# Altium schematic symbol library SCH - MCU - STM32 - ST MICROELECTRONICS STM32U545REIXQ UFBGA64.SchLib: 1 symbol
Pins are listed as number, name and electrical type; pins without a type are passive.

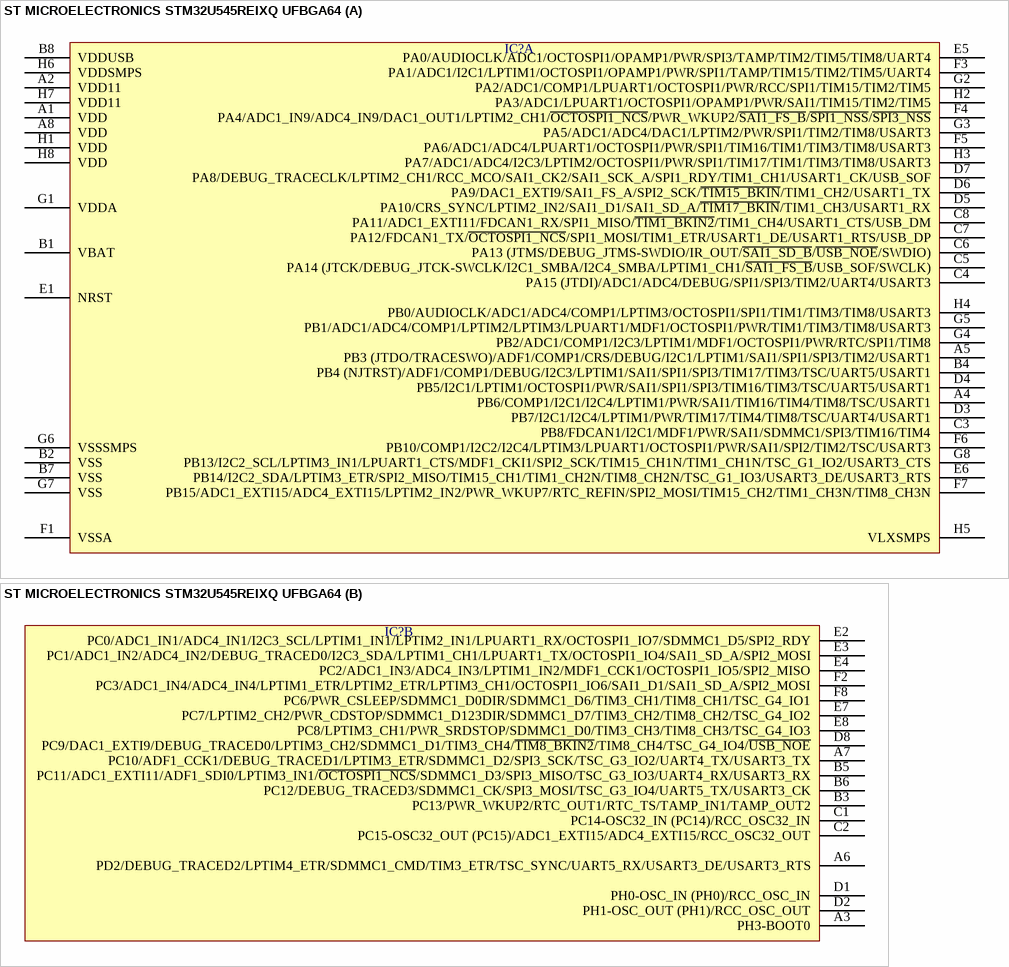
[diagram p0: symbol ST MICROELECTRONICS STM32U545REIXQ UFBGA64]

## ST MICROELECTRONICS STM32U545REIXQ UFBGA64
designator IC?  (value not drawn)
part A pins: A1 VDD, A2 VDD11, A4 PB6/COMP1/I2C1/I2C4/LPTIM1/PWR/SAI1/TIM16/TIM4/TIM8/TSC/USART1, A5 PB3 (JTDO/TRACESWO)/ADF1/COMP1/CRS/DEBUG/I2C1/LPTIM1/SAI1/SPI1/SPI3/TIM2/USART1, A8 VDD, B1 VBAT, B2 VSS, B4 PB4 (NJTRST)/ADF1/COMP1/DEBUG/I2C3/LPTIM1/SAI1/SPI1/SPI3/TIM17/TIM3/TSC/UART5/USART1, B7 VSS, B8 VDDUSB, C3 PB8/FDCAN1/I2C1/MDF1/PWR/SAI1/SDMMC1/SPI3/TIM16/TIM4, C4 PA15 (JTDI)/ADC1/ADC4/DEBUG/SPI1/SPI3/TIM2/UART4/USART3, C5 PA14 (JTCK/DEBUG_JTCK-SWCLK/I2C1_SMBA/I2C4_SMBA/LPTIM1_CH1/~{SAI1_FS_B}/USB_SOF/SWCLK), C6 PA13 (JTMS/DEBUG_JTMS-SWDIO/IR_OUT/~{SAI1_SD_B}/~{USB_NOE}/SWDIO), C7 PA12/FDCAN1_TX/~{OCTOSPI1_NCS}/SPI1_MOSI/TIM1_ETR/USART1_DE/USART1_RTS/USB_DP, C8 PA11/ADC1_EXTI11/FDCAN1_RX/SPI1_MISO/~{TIM1_BKIN2}/TIM1_CH4/USART1_CTS/USB_DM, D3 PB7/I2C1/I2C4/LPTIM1/PWR/TIM17/TIM4/TIM8/TSC/UART4/USART1, D4 PB5/I2C1/LPTIM1/OCTOSPI1/PWR/SAI1/SPI1/SPI3/TIM16/TIM3/TSC/UART5/USART1, D5 PA10/CRS_SYNC/LPTIM2_IN2/SAI1_D1/SAI1_SD_A/~{TIM17_BKIN}/TIM1_CH3/USART1_RX, D6 PA9/DAC1_EXTI9/SAI1_FS_A/SPI2_SCK/~{TIM15_BKIN}/TIM1_CH2/USART1_TX, D7 PA8/DEBUG_TRACECLK/LPTIM2_CH1/RCC_MCO/SAI1_CK2/SAI1_SCK_A/SPI1_RDY/TIM1_CH1/USART1_CK/USB_SOF, E1 NRST, E5 PA0/AUDIOCLK/ADC1/OCTOSPI1/OPAMP1/PWR/SPI3/TAMP/TIM2/TIM5/TIM8/UART4, E6 PB14/I2C2_SDA/LPTIM3_ETR/SPI2_MISO/TIM15_CH1/TIM1_CH2N/TIM8_CH2N/TSC_G1_IO3/USART3_DE/USART3_RTS, F1 VSSA, F3 PA1/ADC1/I2C1/LPTIM1/OCTOSPI1/OPAMP1/PWR/SPI1/TAMP/TIM15/TIM2/TIM5/UART4, F4 PA4/ADC1_IN9/ADC4_IN9/DAC1_OUT1/LPTIM2_CH1/~{OCTOSPI1_NCS}/PWR_WKUP2/~{SAI1_FS_B}/~{SPI1_NSS}/~{SPI3_NSS}, F5 PA6/ADC1/ADC4/LPUART1/OCTOSPI1/PWR/SPI1/TIM16/TIM1/TIM3/TIM8/USART3, F6 PB10/COMP1/I2C2/I2C4/LPTIM3/LPUART1/OCTOSPI1/PWR/SAI1/SPI2/TIM2/TSC/USART3, F7 PB15/ADC1_EXTI15/ADC4_EXTI15/LPTIM2_IN2/PWR_WKUP7/RTC_REFIN/SPI2_MOSI/TIM15_CH2/TIM1_CH3N/TIM8_CH3N, G1 VDDA, G2 PA2/ADC1/COMP1/LPUART1/OCTOSPI1/PWR/RCC/SPI1/TIM15/TIM2/TIM5, G3 PA5/ADC1/ADC4/DAC1/LPTIM2/PWR/SPI1/TIM2/TIM8/USART3, G4 PB2/ADC1/COMP1/I2C3/LPTIM1/MDF1/OCTOSPI1/PWR/RTC/SPI1/TIM8, G5 PB1/ADC1/ADC4/COMP1/LPTIM2/LPTIM3/LPUART1/MDF1/OCTOSPI1/PWR/TIM1/TIM3/TIM8/USART3, G6 VSSSMPS, G7 VSS, G8 PB13/I2C2_SCL/LPTIM3_IN1/LPUART1_CTS/MDF1_CKI1/SPI2_SCK/TIM15_CH1N/TIM1_CH1N/TSC_G1_IO2/USART3_CTS, H1 VDD, H2 PA3/ADC1/LPUART1/OCTOSPI1/OPAMP1/PWR/SAI1/TIM15/TIM2/TIM5, H3 PA7/ADC1/ADC4/I2C3/LPTIM2/OCTOSPI1/PWR/SPI1/TIM17/TIM1/TIM3/TIM8/USART3, H4 PB0/AUDIOCLK/ADC1/ADC4/COMP1/LPTIM3/OCTOSPI1/SPI1/TIM1/TIM3/TIM8/USART3, H5 VLXSMPS, H6 VDDSMPS, H7 VDD11, H8 VDD
part B pins: A3 PH3-BOOT0, A6 PD2/DEBUG_TRACED2/LPTIM4_ETR/SDMMC1_CMD/TIM3_ETR/TSC_SYNC/UART5_RX/USART3_DE/USART3_RTS, A7 PC10/ADF1_CCK1/DEBUG_TRACED1/LPTIM3_ETR/SDMMC1_D2/SPI3_SCK/TSC_G3_IO2/UART4_TX/USART3_TX, B3 PC13/PWR_WKUP2/RTC_OUT1/RTC_TS/TAMP_IN1/TAMP_OUT2, B5 PC11/ADC1_EXTI11/ADF1_SDI0/LPTIM3_IN1/~{OCTOSPI1_NCS}/SDMMC1_D3/SPI3_MISO/TSC_G3_IO3/UART4_RX/USART3_RX, B6 PC12/DEBUG_TRACED3/SDMMC1_CK/SPI3_MOSI/TSC_G3_IO4/UART5_TX/USART3_CK, C1 PC14-OSC32_IN (PC14)/RCC_OSC32_IN, C2 PC15-OSC32_OUT (PC15)/ADC1_EXTI15/ADC4_EXTI15/RCC_OSC32_OUT, D1 PH0-OSC_IN (PH0)/RCC_OSC_IN, D2 PH1-OSC_OUT (PH1)/RCC_OSC_OUT, D8 PC9/DAC1_EXTI9/DEBUG_TRACED0/LPTIM3_CH2/SDMMC1_D1/TIM3_CH4/~{TIM8_BKIN2}/TIM8_CH4/TSC_G4_IO4/~{USB_NOE}, E2 PC0/ADC1_IN1/ADC4_IN1/I2C3_SCL/LPTIM1_IN1/LPTIM2_IN1/LPUART1_RX/OCTOSPI1_IO7/SDMMC1_D5/SPI2_RDY, E3 PC1/ADC1_IN2/ADC4_IN2/DEBUG_TRACED0/I2C3_SDA/LPTIM1_CH1/LPUART1_TX/OCTOSPI1_IO4/SAI1_SD_A/SPI2_MOSI, E4 PC2/ADC1_IN3/ADC4_IN3/LPTIM1_IN2/MDF1_CCK1/OCTOSPI1_IO5/SPI2_MISO, E7 PC7/LPTIM2_CH2/PWR_CDSTOP/SDMMC1_D123DIR/SDMMC1_D7/TIM3_CH2/TIM8_CH2/TSC_G4_IO2, E8 PC8/LPTIM3_CH1/PWR_SRDSTOP/SDMMC1_D0/TIM3_CH3/TIM8_CH3/TSC_G4_IO3, F2 PC3/ADC1_IN4/ADC4_IN4/LPTIM1_ETR/LPTIM2_ETR/LPTIM3_CH1/OCTOSPI1_IO6/SAI1_D1/SAI1_SD_A/SPI2_MOSI, F8 PC6/PWR_CSLEEP/SDMMC1_D0DIR/SDMMC1_D6/TIM3_CH1/TIM8_CH1/TSC_G4_IO1